# Altium schematic symbol library RES.SchLib: 4 symbols
Pins are listed as number, name and electrical type; pins without a type are passive.

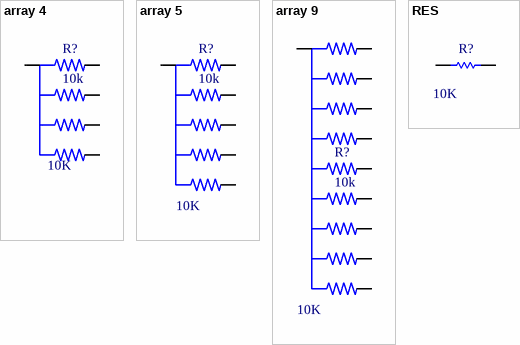
[diagram p0: symbols array 4 to RES]

## array 4
designator R?, comment 10k
array; Value: 10k
footprint SIL5
pins: 1, 2, 3, 4, 5
text: 10K

## array 5
designator R?, comment 10k
array; Value: 10k
footprint SIL6
pins: 1, 2, 3, 4, 5, 6
text: 10K

## array 9
designator R?, comment 10k
array; Value: 10k
footprint SIL6
pins: 1, 2, 3, 4, 5, 6, 7, 8, 9, 10
text: 10K

## RES
designator R?, comment 10K
RES; WAT: 0.25W; VALUE: 10K
footprint 0_25 W
footprint 0_5W
footprint 1W
footprint R0603
footprint 2W
footprint R0805
footprint R1206
footprint R1210
footprint R1812
footprint 0_25 W -stand
footprint R0402
pins: 1, 2